# EAGLE library part C&K-JS202011SCQN-SWITCH (library OddsBooster)
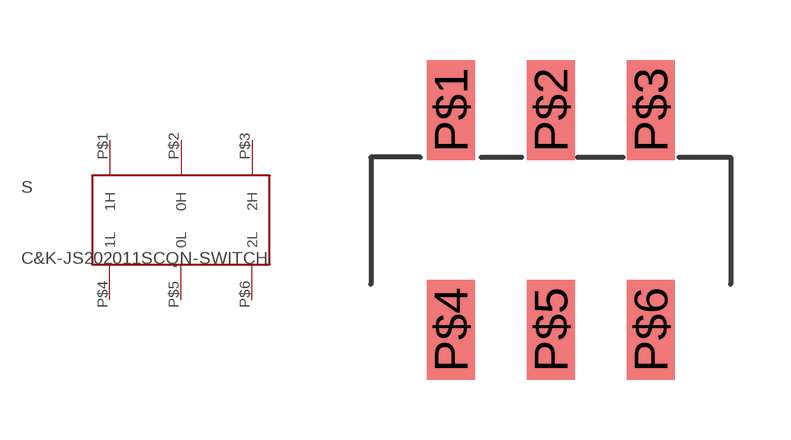
[diagram p0: symbol with the pads of C&K-JS202011SCQN-SWITCH; footprint C&K-JS202011SCQN-SWITCH]

Designator prefix S

## C&K-JS202011SCQN-SWITCH  [C&K-JS202011SCQN-SWITCH]
P$1  1H
P$2  0H
P$3  2H
P$4  1L
P$5  0L
P$6  2L

## Footprint C&K-JS202011SCQN-SWITCH (pad centres in mm)
smd 1.2 x 2.5: P$1 0,5.5; P$2 2.5,5.5; P$3 5,5.5; P$4 0,0; P$5 2.5,0; P$6 5,0